# EAGLE library part USB4070-XX-X_REVC (library USB4070-XX-X_REVC)
USB Type C Receptacle, Vertical, SMT with Shell Stakes & Locating Pegs
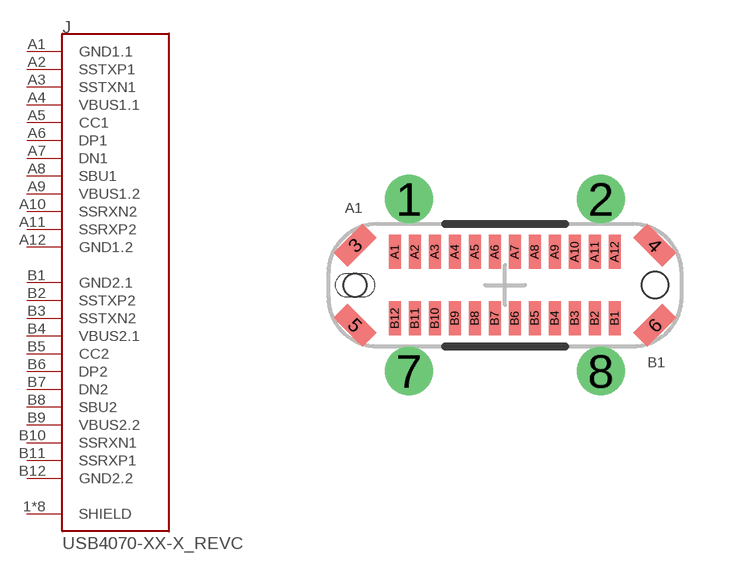
[diagram p0: symbol with the pads of GCT_USB4070-XX-X_REVC; footprint GCT_USB4070-XX-X_REVC]

Designator prefix J

## USB4070-XX-X_REVC (Availability: Unavailable; Description: Usb Type c Rec. 30 , Vertical, Smt With Stakes & Pegs, Tray; MF: Global Connector Technology; MP: USB4070-30-B; Package: None; Price: None)  [GCT_USB4070-XX-X_REVC]
1  SHIELD  pas
2  SHIELD  pas
3  SHIELD  pas
4  SHIELD  pas
5  SHIELD  pas
6  SHIELD  pas
7  SHIELD  pas
8  SHIELD  pas
A1  GND1.1  pwr
A2  SSTXP1  out
A3  SSTXN1  out
A4  VBUS1.1  pwr
A5  CC1
A6  DP1
A7  DN1
A8  SBU1
A9  VBUS1.2  pwr
A10  SSRXN2  in
A11  SSRXP2  in
A12  GND1.2  pwr
B1  GND2.1  pwr
B2  SSTXP2  out
B3  SSTXN2  out
B4  VBUS2.1  pwr
B5  CC2
B6  DP2
B7  DN2
B8  SBU2
B9  VBUS2.2  pwr
B10  SSRXN1  in
B11  SSRXP1  in
B12  GND2.2  pwr

## Footprint GCT_USB4070-XX-X_REVC (pad centres in mm)
drill 0.7 pad 1.1: 1 -2.4,2.15; 2 2.4,2.15; 7 -2.4,-2.15; 8 2.4,-2.15
smd 1.03 x 0.5 rotated 45: 3 -3.75,1; 6 3.75,-1
smd 1.03 x 0.5 rotated 315: 4 3.75,1; 5 -3.75,-1
smd 0.3 x 0.85: A1 -2.75,0.83; A2 -2.25,0.83; A3 -1.75,0.83; A4 -1.25,0.83; A5 -0.75,0.83; A6 -0.25,0.83; A7 0.25,0.83; A8 0.75,0.83; A9 1.25,0.83; A10 1.75,0.83; A11 2.25,0.83; A12 2.75,0.83; B1 2.75,-0.83; B2 2.25,-0.83; B3 1.75,-0.83; B4 1.25,-0.83; B5 0.75,-0.83; B6 0.25,-0.83; B7 -0.25,-0.83; B8 -0.75,-0.83; B9 -1.25,-0.83; B10 -1.75,-0.83; B11 -2.25,-0.83; B12 -2.75,-0.83
hole 0.66 at 3.75,0
hole 0.58 at -3.75,0